# EAGLE library part SCHIRMBLECH70MM (library Lasser)
Screening Strip Perancea LTD SS185/25 Farnell 522-272
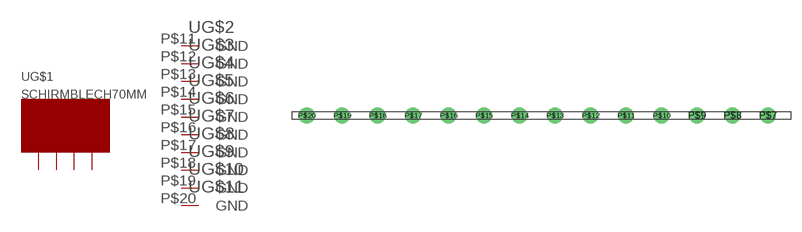
[diagram p20: symbol with the pads of SCREENINGSTRIP_SHORT; footprint SCREENINGSTRIP_SHORT]

Designator prefix -; gates G$1=SCHIRMGEHÄUSE G$2=GND G$3=GND G$4=GND G$5=GND G$6=GND G$7=GND G$8=GND G$9=GND G$10=GND G$11=GND

## SCHIRMBLECH70MM  [SCREENINGSTRIP_SHORT]
P$7  G$1:P$1
P$8  G$1:P$2
P$9  G$1:P$3
P$10  G$1:P$4
P$11  G$2:GND  pwr
P$12  G$3:GND  pwr
P$13  G$4:GND  pwr
P$14  G$5:GND  pwr
P$15  G$6:GND  pwr
P$16  G$7:GND  pwr
P$17  G$8:GND  pwr
P$18  G$9:GND  pwr
P$19  G$10:GND  pwr
P$20  G$11:GND  pwr

## Footprint SCREENINGSTRIP_SHORT (pad centres in mm)
drill 1.5 round: P$7 25.4,0; P$8 20.32,0; P$9 15.24,0; P$10 10.16,0; P$11 5.08,0; P$12 0,0; P$13 -5.08,0; P$14 -10.16,0; P$15 -15.24,0; P$16 -20.32,0; P$17 -25.4,0; P$18 -30.48,0; P$19 -35.56,0; P$20 -40.64,0